# EAGLE library part WM8523 (library df4iah_dac)
WM8523 DAC, 2ch, 24 Bit, I2S, Control: I2C/SPI
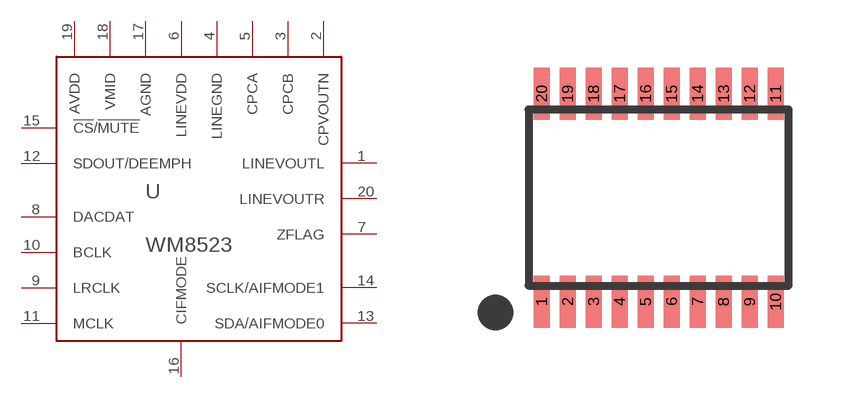
[diagram p2: symbol with the pads of TSSOP20; footprint TSSOP20]

Designator prefix U

## WM8523  [TSSOP20]
1  LINEVOUTL  out
2  CPVOUTN  pas
3  CPCB  pas
4  LINEGND  pas
5  CPCA  pas
6  LINEVDD  pas
7  ZFLAG  out
8  DACDAT  in
9  LRCLK  in
10  BCLK  in
11  MCLK  in
12  SDOUT/DEEMPH  out
13  SDA/AIFMODE0
14  SCLK/AIFMODE1  in
15  !CS!/!MUTE  in
16  CIFMODE  in
17  AGND  pas
18  VMID  pas
19  AVDD  pas
20  LINEVOUTR  out

## Footprint TSSOP20 (pad centres in mm)
Thin Shrink Small Outline Package TSSOP-20
smd 0.4 x 1.3: 1 -2.925,-2.6; 2 -2.275,-2.6; 3 -1.625,-2.6; 4 -0.975,-2.6; 5 -0.325,-2.6; 6 0.325,-2.6; 7 0.975,-2.6; 8 1.625,-2.6; 9 2.275,-2.6; 10 2.925,-2.6; 11 2.925,2.6; 12 2.275,2.6; 13 1.625,2.6; 14 0.975,2.6; 15 0.325,2.6; 16 -0.325,2.6; 17 -0.975,2.6; 18 -1.625,2.6; 19 -2.275,2.6; 20 -2.925,2.6